# Altium footprint library mag_pos.PcbLib: 22 footprints (part 2 of 2)
Each footprint in its own frame and in the unit in brackets; x right, y up, seen from the top. Pads: shape width x height; smd on the part's side, far side on the other; paste and mask are expansions set on the pad; w line width, h text height; cw(c..) or ccw(c..) is an arc to the next point about the centre after c.
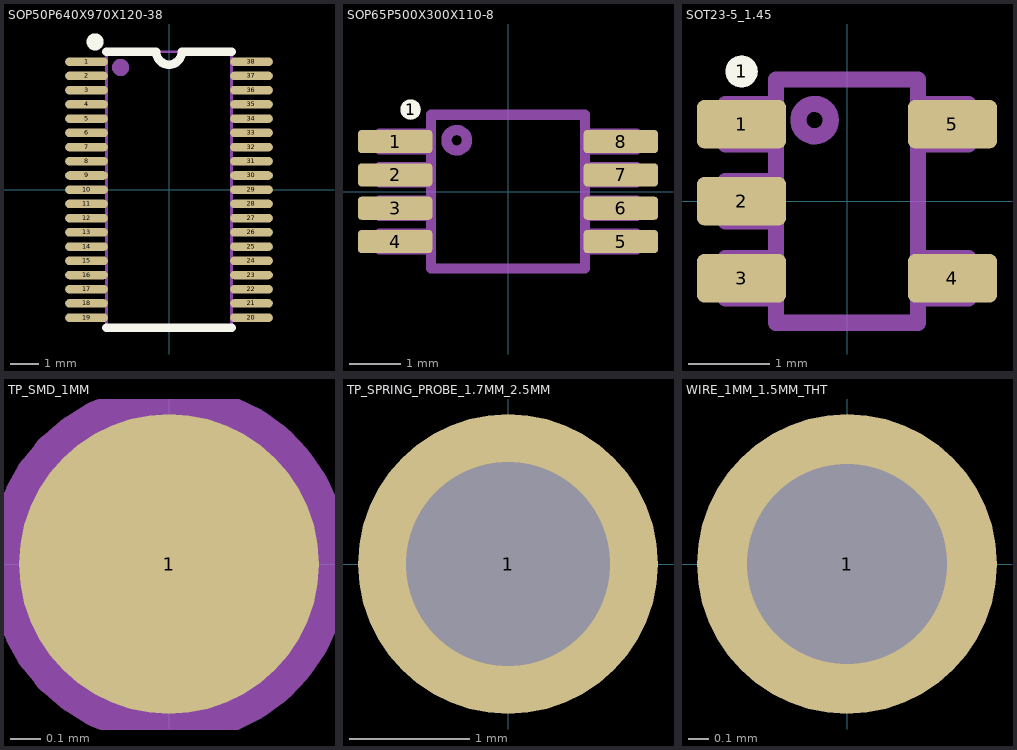
[diagram p1: the footprints below, top view; thin cyan lines are the x and y axes]

## SOP50P640X970X120-38 [mm] "TSSOP 38Pin 0.5mm pitch 1.2mm height (TI DBT0038A)"
height 1.2
pads (38):
  oval 1.5x0.3 smd: 1(-2.9,4.5) 2(-2.9,4) 3(-2.9,3.5) 4(-2.9,3) 5(-2.9,2.5) 6(-2.9,2) 7(-2.9,1.5) 8(-2.9,1) 9(-2.9,0.5) 10(-2.9,0) 11(-2.9,-0.5) 12(-2.9,-1) 13(-2.9,-1.5) 14(-2.9,-2) 15(-2.9,-2.5) 16(-2.9,-3) 17(-2.9,-3.5) 18(-2.9,-4) 19(-2.9,-4.5) 20(2.9,-4.5) 21(2.9,-4) 22(2.9,-3.5) 23(2.9,-3) 24(2.9,-2.5) 25(2.9,-2) 26(2.9,-1.5) 27(2.9,-1) 28(2.9,-0.5) 29(2.9,0) 30(2.9,0.5) 31(2.9,1) 32(2.9,1.5) 33(2.9,2) 34(2.9,2.5) 35(2.9,3) 36(2.9,3.5) 37(2.9,4) 38(2.9,4.5)
Top Overlay:
  circle w0.4: c-2.6,5.2 r0.1
  lines w0.3: -2.2,-4.85 2.2,-4.85 ; -2.2,4.85 -0.45,4.85 ccw(c0,4.85) 0.45,4.85 2.2,4.85
Top Assembly:
  circle w0.4: c-1.7,4.3 r0.1
  lines w0.1: -2.2,-4.85 -2.2,4.85 2.2,4.85 2.2,-4.85 -2.2,-4.85
3D body "DBT0038A.stp": height 1.13, standoff 0, extent -3.2,-4.85 3.2,4.85

## SOP65P500X300X110-8 [mm] "Small outline package, 0.65mm pitch, 8 pin, 1.1mm height (TI DGK0008A)"
pads (9):
  rrect30% 1.45x0.45 smd: 1(-2.2,0.975) 2(-2.2,0.325) 3(-2.2,-0.325) 4(-2.2,-0.975) 5(2.2,-0.975) 6(2.2,-0.325) 7(2.2,0.325) 8(2.2,0.975)
  round 0.4 on Top Overlay: 1(-1.9,1.6)
Top Assembly:
  circle w0.2: c-1,1 r0.2
  lines w0.2: -1.5,-1.125 -2.5,-1.125 -2.5,-0.825 -1.5,-0.825 ; -1.5,-0.475 -2.5,-0.475 -2.5,-0.175 -1.5,-0.175 ; -1.5,0.175 -2.5,0.175 -2.5,0.475 -1.5,0.475 ; -1.5,0.825 -2.5,0.825 -2.5,1.125 -1.5,1.125 ; 1.5,-1.125 2.5,-1.125 2.5,-0.825 1.5,-0.825 ; 1.5,-0.475 2.5,-0.475 2.5,-0.175 1.5,-0.175 ; 1.5,0.175 2.5,0.175 2.5,0.475 1.5,0.475 ; 1.5,0.825 2.5,0.825 2.5,1.125 1.5,1.125 ; -1.5,-1.5 1.5,-1.5 1.5,1.5 -1.5,1.5 -1.5,-1.5
3D body "DGK0008A.stp": height 1.1, standoff 0, extent -2.451,-1.498 2.451,1.499

## SOT23-5_1.45 [mm] "SOT23-5 1.45mm height (TI DVB0005A)"
pads (6):
  rrect30% 1.1x0.6 smd: 1(-1.3,0.95) 2(-1.3,0) 3(-1.3,-0.95) 4(1.3,-0.95) 5(1.3,0.95)
  round 0.4 on Top Overlay: 1(-1.3,1.6)
Top Assembly:
  circle w0.2: c-0.4,1 r0.2
  lines w0.2: -0.875,-1.2 -1.5,-1.2 -1.5,-0.7 -0.875,-0.7 ; -0.875,-0.25 -1.5,-0.25 -1.5,0.25 -0.875,0.25 ; -0.875,0.7 -1.5,0.7 -1.5,1.2 -0.875,1.2 ; 0.875,-1.2 1.5,-1.2 1.5,-0.7 0.875,-0.7 ; 0.875,0.7 1.5,0.7 1.5,1.2 0.875,1.2 ; -0.875,-1.5 0.875,-1.5 0.875,1.5 -0.875,1.5 -0.875,-1.5
3D body "DBV0005A.stp": height 1.2, standoff 0, extent -1.4,-1.45 1.4,1.45

## TP_SMD_1MM [mm] "Testpoint SMD 1mm"
pads (1):
  round 1 smd: 1(0,0)
Top Assembly:
  circle w0.2: c0,0 r0.5
3D body: height 0.1, standoff 0, extent -0.498,-0.499 0.498,0.499

## TP_SPRING_PROBE_1.7MM_2.5MM [mm] "Spring probe sleeve 1.7mm hole diameter, 2.5mm pad size, Harwin S25-022"
pads (1):
  round 2.5 / inner round 2.1 / far side round 2.5 hole 1.7: 1(0,0)
3D body "s25-022.stp": height 5.44, standoff -18.26, extent -0.915,-0.915 0.915,0.915

## WIRE_1MM_1.5MM_THT [mm] "Wire with 1mm diameter, 1.5mm pad diameter"
pads (1):
  round 1.5 hole 1: 1(0,0)
Top Assembly:
  circle w0.2: c0,0 r0.5
3D body: height 3, standoff -2, extent -0.349,-0.349 0.349,0.349